# Altium footprint library CONN(2.54mm, 2x17, 34-POS, DUAL-EDGE, RA).PcbLib: 1 footprints
Each footprint in its own frame and in the unit in brackets; x right, y up, seen from the top. Pads: shape width x height; smd on the part's side, far side on the other; paste and mask are expansions set on the pad; w line width, h text height; cw(c..) or ccw(c..) is an arc to the next point about the centre after c.
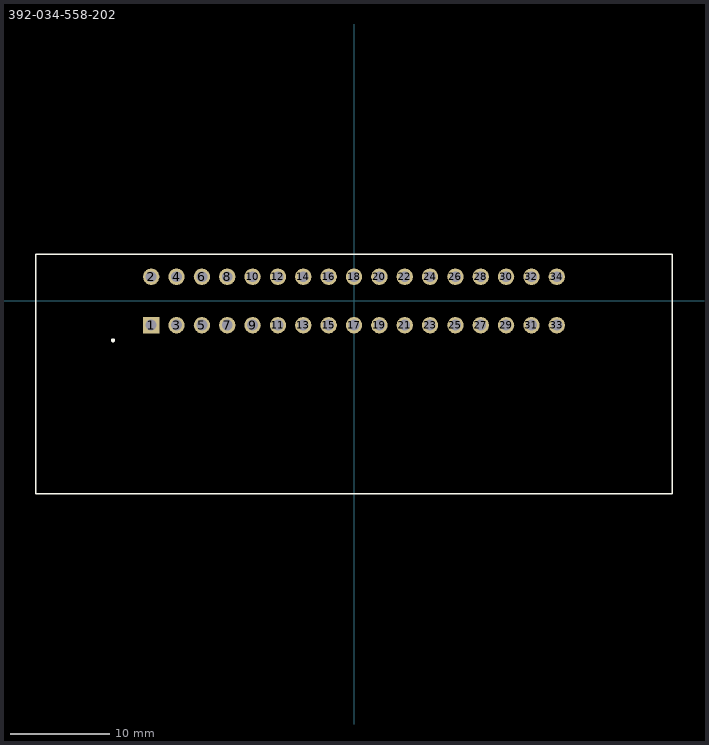
[diagram p0: the footprint, top view; thin cyan lines are the x and y axes]

## 392-034-558-202 [mil]
pads (34):
  rect 64.5x64.5 / inner round 64.5 / far side rect 64.5x64.5 hole 43: 1(-800,-95.5)
  round 64.5 hole 43: 2(-800,95.5) 3(-700,-95.5) 4(-700,95.5) 5(-600,-95.5) 6(-600,95.5) 7(-500,-95.5) 8(-500,95.5) 9(-400,-95.5) 10(-400,95.5) 11(-300,-95.5) 12(-300,95.5) 13(-200,-95.5) 14(-200,95.5) 15(-100,-95.5) 16(-100,95.5) 17(0,-95.5) 18(0,95.5) 19(100,-95.5) 20(100,95.5) 21(200,-95.5) 22(200,95.5) 23(300,-95.5) 24(300,95.5) 25(400,-95.5) 26(400,95.5) 27(500,-95.5) 28(500,95.5) 29(600,-95.5) 30(600,95.5) 31(700,-95.5) 32(700,95.5) 33(800,-95.5) 34(800,95.5)
Top Overlay:
  circle w10: c-950,-155 r3
  lines w6: -1255,-760 -1255,184 1255,184 1255,-760 -1255,-760
3D body "392-034-558-202 - EDAC Card Edge Connector (1).STEP": height 370, standoff -645, extent -1250,-755 1250,107.7